# Altium schematic symbol library Inductors.SchLib: 3 symbols
Pins are listed as number, name and electrical type; pins without a type are passive.

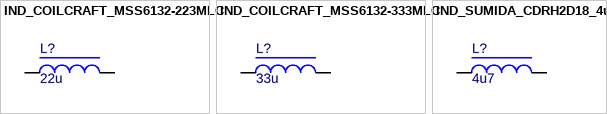
[diagram p0: symbols IND_COILCRAFT_MSS6132-223MLC to IND_SUMIDA_CDRH2D18_4u7]

## IND_COILCRAFT_MSS6132-223MLC
designator L?  value 22u
Inductor; Manufacturer 1: Coilcraft; Manufacturer Part Number 1: MSS6132-223MLC; Tolerance: 20%; ComponentLink1Description: Datasheet; Supplier 1: Mouser; Supplier Part Number 1: 994-MSS6132-223MLC; Last Updated: 2015-04-24; Package: MSS6132; Created: 2015-04-24
footprint COILCRAFT_MSS6132
pins: 1, 2

## IND_COILCRAFT_MSS6132-333MLC
designator L?  value 33u
Inductor; Manufacturer 1: Coilcraft; Manufacturer Part Number 1: MSS6132-333MLC; Tolerance: 20%; ComponentLink1Description: Datasheet; Supplier 1: Mouser; Supplier Part Number 1: 994-MSS6132-333MLC; Last Updated: 2015-04-24; Package: MSS6132; Created: 2015-04-24
footprint COILCRAFT_MSS6132
pins: 1, 2

## IND_SUMIDA_CDRH2D18_4u7
designator L?, comment value 4u7  (hidden comment: 851-CDRH2D18HP-4R7NC)
Inductor; Manufacturer 1: Sumida; Manufacturer Part Number 1: CDRH2D18/HPNP-4R7NC; Tolerance: 30%; ComponentLink1Description: Datasheet; Supplier 1: Mouser; Supplier Part Number 1: 851-CDRH2D18HP-4R7NC; Last Updated: 2015-04-11; Package: IND_SUMIDA_CDRH2D18; Created: 2015-04-11
footprint SUMIDA_CDRH2D18 (Sumida inductor package)
pins: 1, 2